# Altium footprint library Connector.PcbLib: 28 footprints (part 1 of 2)
Each footprint in its own frame and in the unit in brackets; x right, y up, seen from the top. Pads: shape width x height; smd on the part's side, far side on the other; paste and mask are expansions set on the pad; w line width, h text height; cw(c..) or ccw(c..) is an arc to the next point about the centre after c.
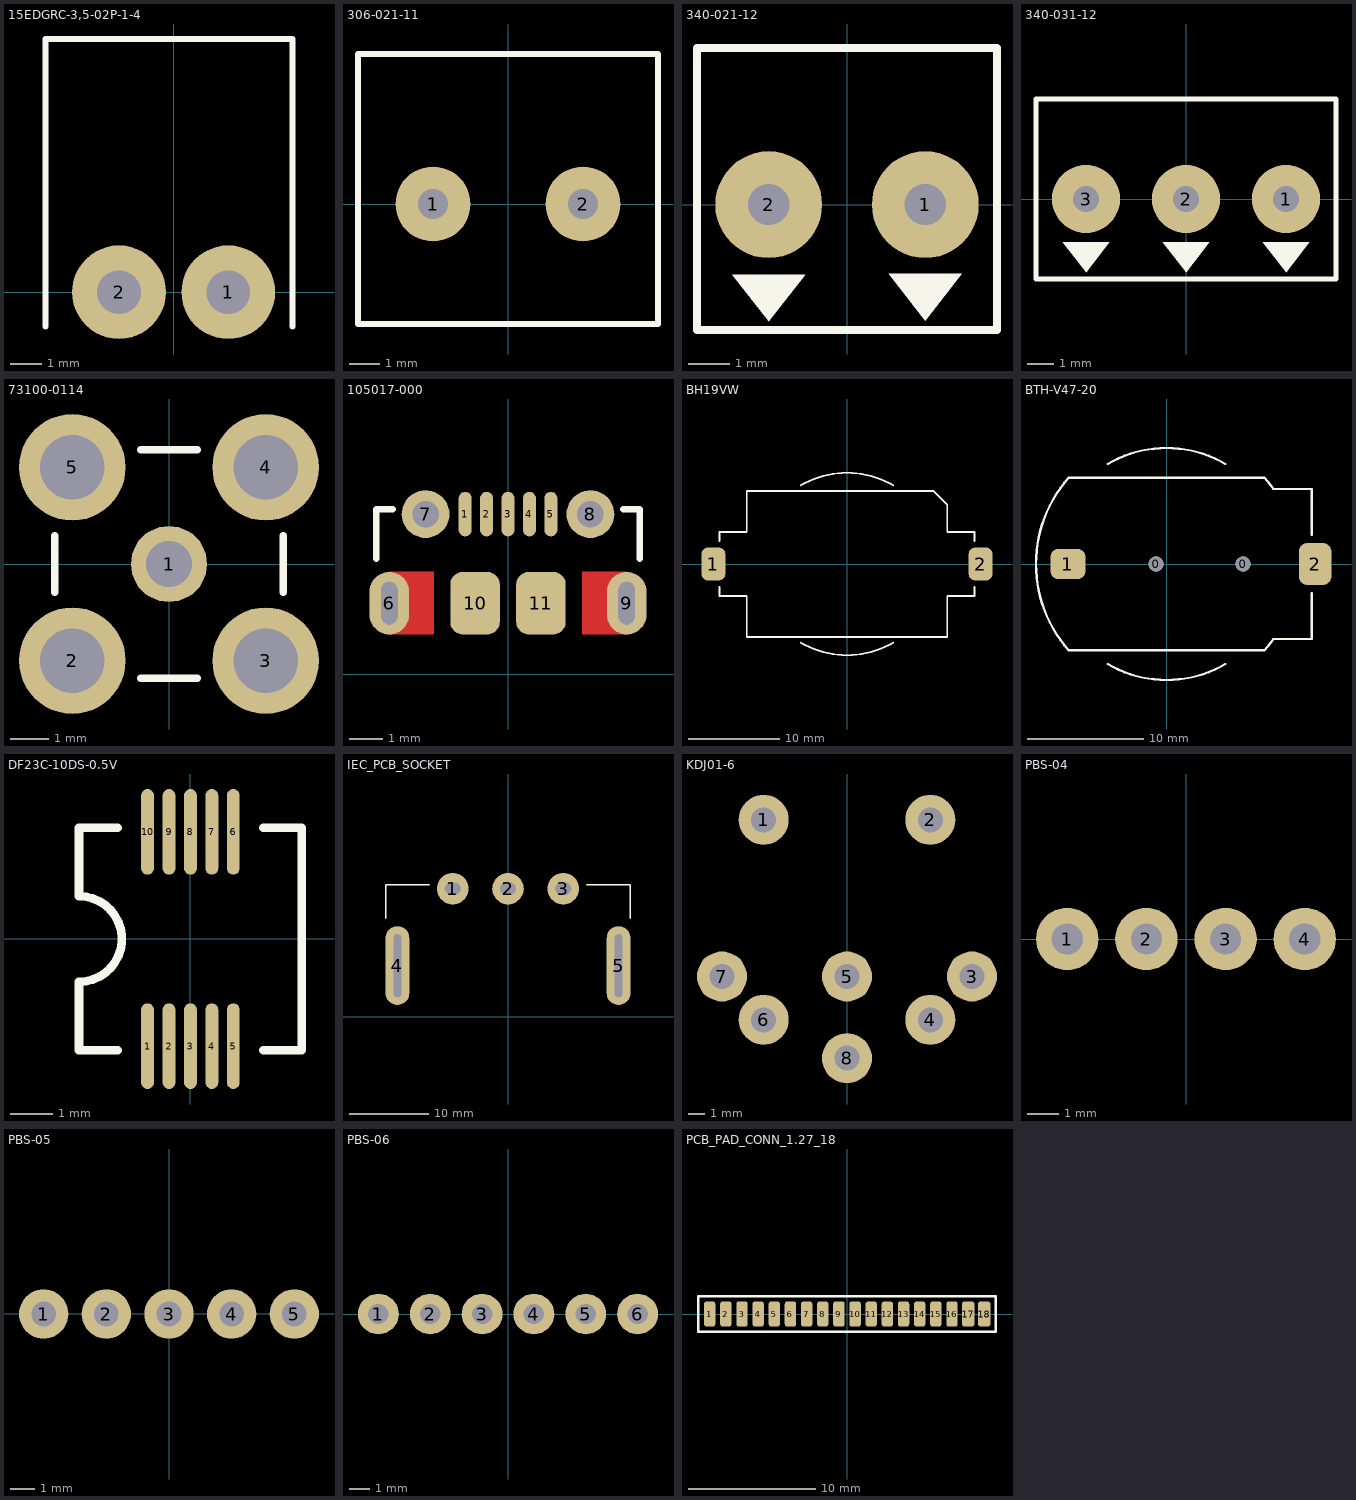
[diagram p0: the footprints below, top view; thin cyan lines are the x and y axes]

## 15EDGRC-3,5-02P-1-4 [mm]
pads (2):
  round 3 hole 1.4: 1(1.75,0) 2(-1.75,0)
Top Overlay:
  lines w0.2: -4.1,-1.1 -4.1,8.1 3.8,8.1 3.8,-1.1
3D body: height 7.22, standoff -3.38, extent -3.9,-1.2 3.9,8

## 306-021-11 [mm]
pads (2):
  round 2.5 hole 1 unplated: 1(-2.5,0) 2(2.5,0)
Top Overlay:
  lines w0.2: -5,-4 -5,5 5,5 5,-4 -5,-4
3D body: height 12.62, standoff -4.38, extent -5,-4 5,5

## 340-021-12 [mm]
pads (2):
  round 2.6 hole 1: 1(1.905,0) 2(-1.905,0)
Top Overlay:
  region: -1.011,-1.7 -2.789,-1.7 -1.9,-2.843
  region: 2.795,-1.679 1.017,-1.679 1.906,-2.822
  lines w0.2: -3.65,-3.048 3.65,-3.048 3.65,3.81 -3.65,3.81 -3.65,-3.048
3D body: height 8.51, standoff -3.49, extent -3.55,-3.1 3.55,3.9

## 340-031-12 [mm]
pads (3):
  round 2.6 hole 1: 1(3.81,0) 2(0,0) 3(-3.81,0)
Top Overlay:
  region: 4.699,-1.651 2.921,-1.651 3.81,-2.794
  region: 0.889,-1.651 -0.889,-1.651 0,-2.794
  region: -2.921,-1.651 -4.699,-1.651 -3.81,-2.794
  lines w0.2: -5.715,-3.048 -5.715,3.81 5.715,3.81 5.715,-3.048 -5.715,-3.048
3D body: height 8.52, standoff -3.48, extent -5.715,-3.1 5.715,3.9

## 73100-0114 [mm] "Connector; RF Coaxial, MCX, Thru-Hole; 5 Position; Right-Angle"
height 5.85
pads (5):
  round 2 hole 1.2: 1(0,0)
  round 2.8 hole 1.7: 2(-2.54,-2.54) 3(2.54,-2.54) 4(2.54,2.54) 5(-2.54,2.54)
Top Overlay:
  lines w0.2: -3,-0.74 -3,0.74 ; -0.74,-3 0.74,-3 ; -0.74,3 0.74,3 ; 3,-0.74 3,0.74
3D body: height 9.91, standoff -3.89, extent -11,-3.5 3.5,3.5

## 105017-000 [mm] "105017-0001 Micro USB Connector (Molex)"
height 2
pads (11):
  oval 0.4x1.35 smd: 1(-1.3,4.85) 2(-0.65,4.85) 3(0,4.85) 4(0.65,4.85) 5(1.3,4.85)
  oval 1.2x1.9 hole 0.5 slot 1.3 at 90 deg: 6(-3.6,2.15) 9(3.6,2.15)
  round 1.45 hole 0.8: 7(-2.5,4.85) 8(2.5,4.85)
  rrect50% 1.5x1.9 smd: 10(-1,2.15) 11(1,2.15)
Top Layer:
  region: 2.25,3.1 3.6,3.1 3.6,1.2 2.25,1.2
  region: -3.6,3.1 -2.25,3.1 -2.25,1.2 -3.6,1.2
Top Overlay:
  lines w0.2: -4,3.5 -4,5 -3.5,5 ; 3.5,5 4,5 4,3.5
Top Solder:
  rectangle: -1.3,4.3 1.3,5.4
  region: -3.6,3.2 -2.15,3.2 -2.15,1.1 -3.6,1.1
  region: 2.15,3.2 3.6,3.2 3.6,1.1 2.15,1.1
3D body: height 2.72, standoff -0.58, extent -4.1,-0.4 4.1,5.03

## BH19VW [mm] "CR2032 Connector"
pads (2):
  rrect50% 2.6x3.6 smd: 1(-14.65,0) 2(14.65,0)
Top Overlay:
  lines w0.2: -14,-2.5 -14,-3.5 -11,-3.5 -11,-8 11,-8 11,-3.5 14,-3.5 14,-2.5 ; -14,2.5 -14,3.5 -11,3.5 -11,8 9.5,8 11,6.5 11,3.5 14,3.5 14,2.5 ; -5.07,-8.619 ccw(c0,0) 5.07,-8.619 ; -5.07,8.619 cw(c0,0) 5.07,8.619
3D body: height 5.61, standoff 0.01, extent -16.1,-8 16.1,8

## BTH-V47-20 [mm] "Battery Holder"
height 4.7
pads (4):
  round 1.3 hole 1.3 unplated mask+0: 0(-0.9,0) 0(6.6,0)
  rrect50% 3x2.6 smd mask+0.1: 1(-8.5,0)
  rrect50% 2.8x3.6 smd mask+0.1: 2(12.8,0)
Top Overlay:
  lines w0.2: -5.07,-8.619 ccw(c0,0) 5.07,-8.619 ; -5.07,8.619 cw(c0,0) 5.07,8.619 ; 12.5,-2.5 12.5,-6.468 9.205,-6.468 cw(c0,0) 8.436,-7.443 -8.436,-7.443 cw(c0,0) -11.25,0 cw(c0,0) -8.436,7.443 8.436,7.443 cw(c0,0) 9.205,6.468 12.5,6.468 12.5,2.5
3D body: height 4.72, standoff 0.02, extent -11.15,-7.53 12.55,7.53

## DF23C-10DS-0.5V [mm]
pads (10):
  oval 0.3x2 smd: 1(-1,-2.5) 2(-0.5,-2.5) 3(0,-2.5) 4(0.5,-2.5) 5(1,-2.5) 6(1,2.5) 7(0.5,2.5) 8(0,2.5) 9(-0.5,2.5) 10(-1,2.5)
Top Overlay:
  lines w0.2: -1.7,-2.6 -2.6,-2.6 -2.6,-1 ccw(c-2.6,0) -2.6,1 -2.6,2.6 -1.7,2.6 ; 1.7,-2.6 2.6,-2.6 2.6,2.6 1.7,2.6
3D body: height 1.52, standoff 0.01, extent -2.6,-3.1 2.6,3.1

## IEC_PCB_SOCKET [mm]
pads (5):
  round 4 hole 1.5 slot 2 at 0 deg: 1(-7,16.25) 2(0,16.25) 3(7,16.25)
  oval 3x10 hole 1 slot 8 at 90 deg: 4(-14,6.5) 5(14,6.5)
Top Overlay:
  lines w0.2: -15.5,12.5 -15.5,16.75 -10,16.75 ; 10,16.75 15.5,16.75 15.5,12.5
3D body: height 21.51, standoff -5.52, extent -15.5,-3.3 15.5,16.7

## KDJ01-6 [mm]
pads (8):
  round 3 hole 1.5 unplated: 1(-5,-3) 2(5,-3) 3(7.5,-12.4) 4(5,-15) 5(0,-12.4) 6(-5,-15) 7(-7.5,-12.4) 8(0,-17.3)
3D body: height 19.51, standoff -3.49, extent -10.5,-19.5 10.5,0

## PBS-04 [mm]
pads (4):
  round 2 hole 1 unplated: 1(-3.81,0) 2(-1.27,0) 3(1.27,0) 4(3.81,0)
3D body: height 8.51, standoff -3.19, extent -5.205,-1.25 5.205,1.25

## PBS-05 [mm]
pads (5):
  round 2 hole 1 unplated: 1(-5.08,0) 2(-2.54,0) 3(0,0) 4(2.54,0) 5(5.08,0)
3D body: height 8.51, standoff -3.19, extent -6.475,-1.25 6.475,1.25

## PBS-06 [mm]
pads (6):
  round 2 hole 1 unplated: 1(-6.35,0) 2(-3.81,0) 3(-1.27,0) 4(1.27,0) 5(3.81,0) 6(6.35,0)
3D body: height 8.51, standoff -3.19, extent -7.745,-1.25 7.745,1.25

## PBS-16 [mm]
3D body: height 14.01, standoff 2.31, extent -1.395,-1.25 39.495,1.25

## PCB_PAD_CONN_1.27_18 [mm]
pads (18):
  rrect50% 0.9x2 smd: 1(-10.795,0) 2(-9.525,0) 3(-8.255,0) 4(-6.985,0) 5(-5.715,0) 6(-4.445,0) 7(-3.175,0) 8(-1.905,0) 9(-0.635,0) 10(0.635,0) 11(1.905,0) 12(3.175,0) 13(4.445,0) 14(5.715,0) 15(6.985,0) 16(8.255,0)
  rrect50% 1x2 smd: 17(9.525,0) 18(10.795,0)
Top Overlay:
  lines w0.2: -11.684,-1.397 -11.684,1.397 11.684,1.397 11.684,-1.397 -11.684,-1.397